# Altium footprint library SamacSys.PcbLib: 33 footprints (part 1 of 3)
Each footprint in its own frame and in the unit in brackets; x right, y up, seen from the top. Pads: shape width x height; smd on the part's side, far side on the other; paste and mask are expansions set on the pad; w line width, h text height; cw(c..) or ccw(c..) is an arc to the next point about the centre after c.
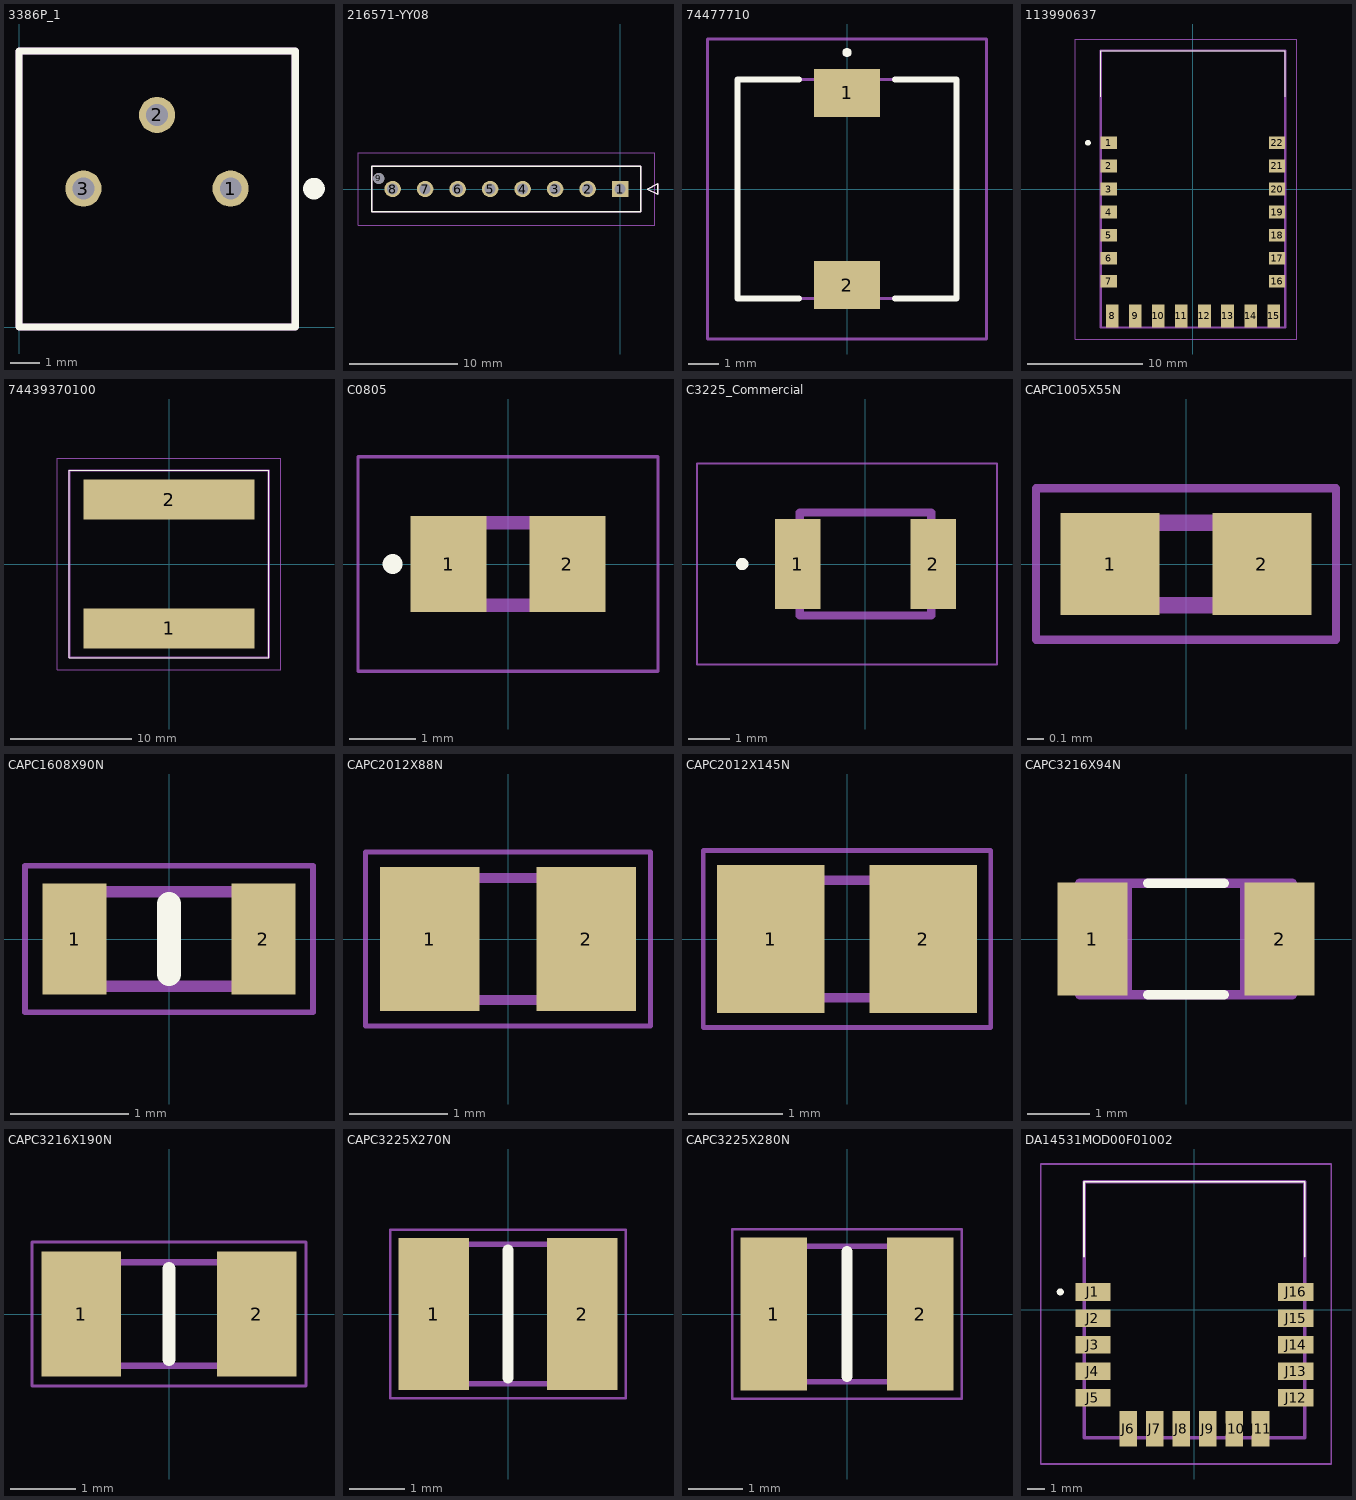
[diagram p0: the footprints below, top view; thin cyan lines are the x and y axes]

## 3386P_1 [mm]
pads (3):
  round 1.25 hole 0.75: 1(7.305,4.78) 2(4.765,7.32) 3(2.225,4.78)
Top Overlay:
  circle w0.4: c10.182,4.778 r0.173
  lines w0.254: 0,0 0,9.53 9.53,9.53 9.53,0 0,0
Mechanical 13:
  lines w0.254: 0,0 9.53,0 9.53,9.53 0,9.53 0,0

## 216571-YY08 [mm]
pads (9):
  rect 1.52x1.52 hole 1.02: 1(0,0)
  round 1.52 hole 1.02: 2(-3,0) 3(-6,0) 4(-9,0) 5(-12,0) 6(-15,0) 7(-18,0) 8(-21,0)
  round 1.02 hole 1.02 unplated: 9(-22.28,0.98)
Top Overlay:
  lines w0.127: -22.925,-2.09 -22.925,2.09 1.925,2.09 1.925,-2.09 -22.925,-2.09 ; 2.5,0 3.5,0.5 3.5,-0.5 2.5,0
Mechanical 13:
  lines w0.127: -22.925,-2.09 -22.925,2.09 1.925,2.09 1.925,-2.09 -22.925,-2.09 ; 2.5,0 3.5,0.5 3.5,-0.5 2.5,0
Mechanical 15:
  lines w0.05: -24.195,-3.36 -24.195,3.36 3.195,3.36 3.195,-3.36 -24.195,-3.36
3D body "216571-2008.stp": height 10.01, standoff -5, extent -22.925,-2.09 3.25,2.09

## 74477710 [mm]
pads (2):
  rect 2.2x1.6 smd: 1(0,3.2) 2(0,-3.2)
Top Overlay:
  lines w0.2: -1.6,-3.65 -3.65,-3.65 -3.65,3.65 -1.6,3.65 ; 1.6,-3.65 3.65,-3.65 3.65,3.65 1.6,3.65 ; 0,4.5 ccw(c0,4.55) 0,4.6 ; 0,4.5 cw(c0,4.55) 0,4.6 ; 0,4.5 ccw(c0,4.55) 0,4.6
Mechanical 13:
  lines w0.1: -3.65,-3.65 -3.65,3.65 3.65,3.65 3.65,-3.65 -3.65,-3.65
Mechanical 15:
  lines w0.1: -4.65,-5 -4.65,5 4.65,5 4.65,-5 -4.65,-5
3D body "74477710.stp": height 4.6, standoff 0, extent -3.65,-3.84 3.65,3.84

## 113990637 [mm]
pads (22):
  rect 1.4x1.1 smd: 1(-7.3,4) 2(-7.3,2) 3(-7.3,0) 4(-7.3,-2) 5(-7.3,-4) 6(-7.3,-6) 7(-7.3,-8) 16(7.3,-8) 17(7.3,-6) 18(7.3,-4) 19(7.3,-2) 20(7.3,0) 21(7.3,2) 22(7.3,4)
  rect 1.1x2 smd: 8(-7,-11) 9(-5,-11) 10(-3,-11) 11(-1,-11) 12(1,-11) 13(3,-11) 14(5,-11) 15(7,-11)
Top Overlay:
  lines w0.1: -8,8 -8,12 8,12 8,8
  lines w0.3: -9.2,4 ccw(c-9.1,4) -9,4 ccw(c-9.1,4) -9.2,4
Mechanical 13:
  lines w0.2: -8,-12 -8,12 8,12 8,-12 -8,-12
Mechanical 15:
  lines w0.1: -10.2,-13 -10.2,13 9,13 9,-13 -10.2,-13
3D body "113990637.stp": height 2.08, standoff 0, extent -8,-12 8,12

## 74439370100 [mm]
pads (2):
  rect 14.1x3.3 smd: 1(0,-5.3) 2(0,5.3)
Top Overlay:
  lines w0.1: -8.2,-7.7 8.2,-7.7 8.2,7.7 -8.2,7.7 -8.2,-7.7
Mechanical 13:
  lines w0.2: -8.2,-7.7 8.2,-7.7 8.2,7.7 -8.2,7.7 -8.2,-7.7
Mechanical 15:
  lines w0.1: -9.2,-8.7 9.2,-8.7 9.2,8.7 -9.2,8.7 -9.2,-8.7
3D body "74439370100.stp": height 10.1, standoff 0, extent -8.2,-7.7 8.2,7.7

## C0805 [mm]
pads (2):
  rect 1.15x1.45 smd: 1(-0.9,0) 2(0.9,0)
Top Overlay:
  circle w0.2: c-1.75,0 r0.05
Mechanical 13:
  lines w0.2: -1,-0.625 1,-0.625 1,0.625 -1,0.625 -1,-0.625
Mechanical 15:
  lines w0.05: -2.275,-1.625 2.275,-1.625 2.275,1.625 -2.275,1.625 -2.275,-1.625
3D body "C0805X474K3RACAUTO7210.stp": height 0.98, standoff 0, extent -1.15,-0.78 1.15,0.77

## C3225_Commercial [mm]
pads (2):
  rect 1.1x2.2 smd: 1(-1.65,0) 2(1.65,0)
Top Overlay:
  circle w0.2: c-3,0 r0.05
Mechanical 13:
  lines w0.2: -1.6,-1.25 1.6,-1.25 1.6,1.25 -1.6,1.25 -1.6,-1.25
Mechanical 15:
  lines w0.05: -4.1,-2.45 3.2,-2.45 3.2,2.45 -4.1,2.45 -4.1,-2.45
3D body "C3225X7R1H106M250AC.stp": height 2.5, standoff 0, extent -1.6,-1.25 1.6,1.25

## CAPC1005X55N [mm]
pads (2):
  rect 0.6x0.62 smd: 1(-0.46,0) 2(0.46,0)
Mechanical 13:
  lines w0.1: -0.5,-0.25 -0.5,0.25 0.5,0.25 0.5,-0.25 -0.5,-0.25
Mechanical 15:
  lines w0.05: -0.91,-0.46 -0.91,0.46 0.91,0.46 0.91,-0.46 -0.91,-0.46
3D body "GRM155R71A333KA01D.stp": height 0.55, standoff 0, extent -0.5,-0.25 0.5,0.25

## CAPC1608X90N [mm]
pads (2):
  rect 0.54x0.94 smd: 1(-0.8,0) 2(0.8,0)
Top Overlay:
  lines w0.2: 0,-0.3 0,0.3
Mechanical 13:
  lines w0.1: -0.8,-0.4 -0.8,0.4 0.8,0.4 0.8,-0.4 -0.8,-0.4
Mechanical 15:
  lines w0.05: -1.22,-0.62 -1.22,0.62 1.22,0.62 1.22,-0.62 -1.22,-0.62
3D body "CGA3E2X7R1H104K080AA.stp": height 0.9, standoff 0, extent -0.8,-0.4 0.8,0.4

## CAPC2012X88N [mm]
pads (2):
  rect 1.02x1.47 smd: 1(-0.8,0) 2(0.8,0)
Mechanical 13:
  lines w0.1: -1,-0.625 -1,0.625 1,0.625 1,-0.625 -1,-0.625
Mechanical 15:
  lines w0.05: -1.46,-0.89 -1.46,0.89 1.46,0.89 1.46,-0.89 -1.46,-0.89
3D body "C0805C104K5RAC7411.stp": height 0.88, standoff 0, extent -1,-0.625 1,0.625

## CAPC2012X145N [mm]
pads (2):
  rect 1.14x1.57 smd: 1(-0.81,0) 2(0.81,0)
Mechanical 13:
  lines w0.1: -1,-0.625 -1,0.625 1,0.625 1,-0.625 -1,-0.625
Mechanical 15:
  lines w0.05: -1.53,-0.94 -1.53,0.94 1.53,0.94 1.53,-0.94 -1.53,-0.94
3D body "C0805X105K5RACAUTO.stp": height 1.45, standoff 0, extent -1.17,-0.78 1.18,0.77

## CAPC3216X94N [mil]
pads (2):
  rect 44x71 smd: 1(-59,0) 2(59,0)
Top Overlay:
  lines w6: -24,-35 24,-35 ; -24,35 24,35
Mechanical 13:
  lines w6: -37,-35 -37,35 ; -37,-35 -67,-35 -67,35 -37,35 ; -37,-35 37,-35 ; -37,35 37,35 ; 37,-35 37,35 ; 37,-35 67,-35 67,35 37,35

## CAPC3216X190N [mm]
pads (2):
  rect 1.22x1.92 smd: 1(-1.35,0) 2(1.35,0)
Top Overlay:
  lines w0.2: 0,-0.7 0,0.7
Mechanical 13:
  lines w0.1: -1.6,-0.8 1.6,-0.8 1.6,0.8 -1.6,0.8 -1.6,-0.8
Mechanical 15:
  lines w0.05: -2.11,-1.11 2.11,-1.11 2.11,1.11 -2.11,1.11 -2.11,-1.11
3D body "GRM31CR60J227ME11L.stp": height 1.9, standoff 0, extent -1.6,-0.8 1.6,0.8

## CAPC3225X270N [mm]
pads (2):
  rect 1.26x2.72 smd: 1(-1.33,0) 2(1.33,0)
Top Overlay:
  lines w0.2: 0,-1.15 0,1.15
Mechanical 13:
  lines w0.1: -1.6,-1.25 1.6,-1.25 1.6,1.25 -1.6,1.25 -1.6,-1.25
Mechanical 15:
  lines w0.05: -2.11,-1.51 2.11,-1.51 2.11,1.51 -2.11,1.51 -2.11,-1.51
3D body "GRM32ER60J107ME20L.stp": height 2.7, standoff 0, extent -1.6,-1.25 1.6,1.25

## CAPC3225X280N [mm]
pads (2):
  rect 1.22x2.82 smd: 1(-1.35,0) 2(1.35,0)
Top Overlay:
  lines w0.2: 0,-1.15 0,1.15
Mechanical 13:
  lines w0.1: -1.6,-1.25 -1.6,1.25 1.6,1.25 1.6,-1.25 -1.6,-1.25
Mechanical 15:
  lines w0.05: -2.11,-1.56 -2.11,1.56 2.11,1.56 2.11,-1.56 -2.11,-1.56
3D body "UMR325AC7106MM-P.stp": height 2.8, standoff 0, extent -1.6,-1.25 1.6,1.25

## DA14531MOD00F01002 [mm]
pads (16):
  rect 2x1 smd: J1(-5.75,1) J2(-5.75,-0.5) J3(-5.75,-2) J4(-5.75,-3.5) J5(-5.75,-5) J12(5.75,-5) J13(5.75,-3.5) J14(5.75,-2) J15(5.75,-0.5) J16(5.75,1)
  rect 1x2 smd: J6(-3.75,-6.75) J7(-2.25,-6.75) J8(-0.75,-6.75) J9(0.75,-6.75) J10(2.25,-6.75) J11(3.75,-6.75)
Top Overlay:
  lines w0.1: -6.25,3 -6.25,7.25 6,7.25 6.25,7.25 6.25,3
  lines w0.2: -7.7,1 cw(c-7.6,1) -7.5,1 cw(c-7.6,1) -7.7,1
Mechanical 13:
  lines w0.2: -6.25,-7.25 6.25,-7.25 6.25,7.25 -6.25,7.25 -6.25,-7.25
Mechanical 15:
  lines w0.1: -8.7,-8.75 7.75,-8.75 7.75,8.25 -8.7,8.25 -8.7,-8.75
3D body "DA14531MOD-00F01002.stp": height 1.9, standoff 0, extent -6.25,-7.25 6.25,7.25